# Altium footprint library clock.PcbLib: 69 footprints (part 4 of 5)
Each footprint in its own frame and in the unit in brackets; x right, y up, seen from the top. Pads: shape width x height; smd on the part's side, far side on the other; paste and mask are expansions set on the pad; w line width, h text height; cw(c..) or ccw(c..) is an arc to the next point about the centre after c.
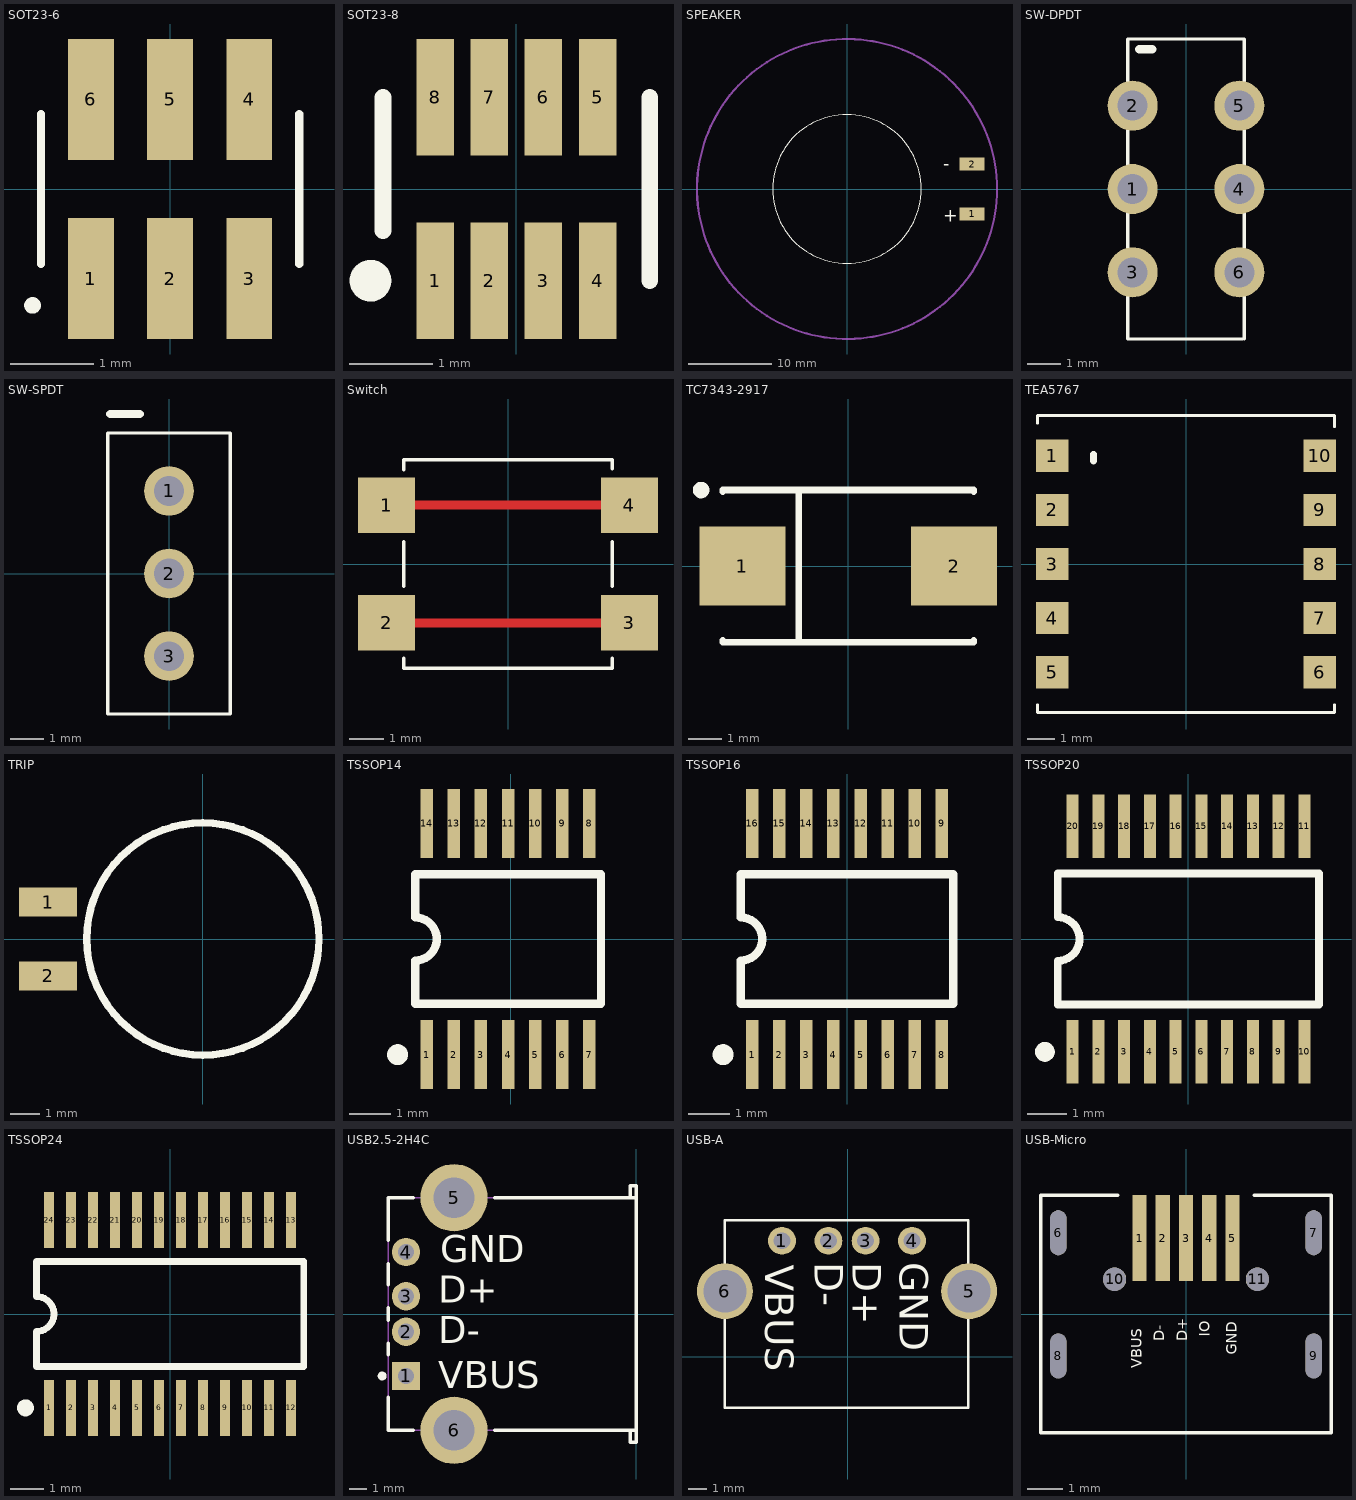
[diagram p3: the footprints below, top view; thin cyan lines are the x and y axes]

## SOT23-6 [mm] "SOT-457/SC-74; 6 Leads; Body 3 x 3 mm, inc. leads (LxW max)"
height 1.45
pads (6):
  rect 0.55x1.45 smd: 1(-0.95,-1.075) 2(0,-1.075) 3(0.95,-1.075) 4(0.95,1.075) 5(0,1.075) 6(-0.95,1.075)
Top Overlay:
  circle w0.1: c-1.651,-1.397 r0.05
  lines w0.1: -1.55,-0.9 -1.55,0.9 ; 1.55,-0.9 1.55,0.9

## SOT23-8 [mm] "SSOP; 8 Leads; Body Width 1.6 mm; Pitch 0.65 mm"
height 1.45
pads (8):
  rect 0.45x1.4 smd: 1(-0.975,-1.1) 2(-0.325,-1.1) 3(0.325,-1.1) 4(0.975,-1.1) 5(0.975,1.1) 6(0.325,1.1) 7(-0.325,1.1) 8(-0.975,1.1)
Top Overlay:
  circle w0.25: c-1.75,-1.1 r0.125
  lines w0.2: -1.6,-0.5 -1.6,1.1 ; 1.6,-1.1 1.6,1.1

## SPEAKER [mm]
pads (2):
  rect 3x1.524 smd: 1(15,-3) 2(15,3)
Top Overlay:
  circle w0.1: c0,0 r8.93
  text "+" at 11.557,-3.937 h1.52
  text "-" at 11.557,2.286 h1.52
Mechanical 13:
  circle w0.254: c0,0 r18

## SW-DPDT [mm]
pads (6):
  round 1.5 hole 0.9: 1(-1.6,0) 2(-1.6,2.5) 3(-1.6,-2.5) 4(1.6,0) 5(1.6,2.5) 6(1.6,-2.5)
Top Overlay:
  lines w0.1: 1.695,-4.5 -1.75,-4.5 -1.75,4.5 1.75,4.5 1.75,-4.5
  lines w0.254: -1.397,4.191 -1.016,4.191

## SW-SPDT [mm]
pads (3):
  round 1.5 hole 0.9: 1(0,2.5) 2(0,0) 3(0,-2.5)
Top Overlay:
  lines w0.1: -1.85,-4.25 -1.85,4.25 1.85,4.25 1.85,-4.25 -1.85,-4.25
  lines w0.254: -1.778,4.826 -0.889,4.826

## Switch [mm]
pads (4):
  rect 1.65x1.6 smd: 1(-3.5,1.7) 2(-3.5,-1.7) 3(3.5,-1.7) 4(3.5,1.7)
Top Layer:
  lines w0.254: -3.5,-1.7 3.5,-1.7 ; -3.5,1.7 3.5,1.7
Top Overlay:
  lines w0.1: -3,-2.715 -3,-3 3,-3 3,-2.715 ; -3,-0.635 -3,0.635 ; -3,2.715 -3,3 3,3 3,2.746 ; 3,-0.635 3,0.635

## TC7343-2917 [mm] "Capacitor, SM Tantalum; Body 7.3 x 4.3 mm (LxW typ)"
height 3.7
pads (2):
  rect 2.6x2.4 smd: 1(-3.2,0) 2(3.2,0)
Top Overlay:
  circle w0.25: c-4.45,2.3 r0.125
  lines w0.2: -3.8,-2.25 -3.8,-2.3 3.8,-2.3 3.8,-2.25 ; -3.8,2.25 -3.8,2.3 3.8,2.3 3.8,2.25 ; -1.5,-2.3 -1.5,2.3

## TEA5767 [mm]
pads (10):
  rect 1.2x1.2 smd: 1(-4.953,4) 2(-4.953,2) 3(-4.953,0) 4(-4.953,-2) 5(-4.953,-4) 6(4.953,-4) 7(4.953,-2) 8(4.953,0) 9(4.953,2) 10(4.953,4)
Top Overlay:
  lines w0.1: -5.5,-5.207 -5.5,-5.5 5.5,-5.5 5.5,-5.207 ; -5.5,5.207 -5.5,5.5 5.5,5.5 5.5,5.08
  lines w0.254: -3.429,3.81 -3.429,4.064
3D body: height 2, standoff 0, extent -5.461,-5.461 5.461,5.461

## TRIP [mm]
pads (2):
  rect 2x1 smd: 1(-5.334,1.27) 2(-5.334,-1.27)
Top Overlay:
  circle w0.254: c0,0 r4

## TSSOP14 [mm] "Shrink Small Outline; 16 Leads; Body Width 4.4 mm; Pitch 0.65 mm"
height 1.1
pads (14):
  rect 0.3x1.65 smd: 1(-2.021,-2.775) 2(-1.371,-2.775) 3(-0.721,-2.775) 4(-0.071,-2.775) 5(0.579,-2.775) 6(1.229,-2.775) 7(1.879,-2.775) 8(1.879,2.775) 9(1.229,2.775) 10(0.579,2.775) 11(-0.071,2.775) 12(-0.721,2.775) 13(-1.371,2.775) 14(-2.021,2.775)
Top Overlay:
  circle w0.25: c-2.721,-2.775 r0.125
  lines w0.2: -2.296,-1.55 2.159,-1.55 2.159,1.55 -2.296,1.55 -2.296,0.517 cw(c-2.296,0) -2.296,-0.517 -2.296,-1.55

## TSSOP16 [mm] "Shrink Small Outline; 16 Leads; Body Width 4.4 mm; Pitch 0.65 mm"
height 1.1
pads (16):
  rect 0.3x1.65 smd: 1(-2.275,-2.775) 2(-1.625,-2.775) 3(-0.975,-2.775) 4(-0.325,-2.775) 5(0.325,-2.775) 6(0.975,-2.775) 7(1.625,-2.775) 8(2.275,-2.775) 9(2.275,2.775) 10(1.625,2.775) 11(0.975,2.775) 12(0.325,2.775) 13(-0.325,2.775) 14(-0.975,2.775) 15(-1.625,2.775) 16(-2.275,2.775)
Top Overlay:
  circle w0.25: c-2.975,-2.775 r0.125
  lines w0.2: -2.55,-1.55 -2.55,-0.517 ccw(c-2.55,0) -2.55,0.517 -2.55,1.55 2.55,1.55 2.55,-1.55 -2.55,-1.55

## TSSOP20 [mm] "Shrink Small Outline; 20 Leads; Body Width 4.4 mm; Pitch 0.65 mm"
height 1.1
pads (20):
  rect 0.3x1.6 smd: 1(-2.925,-2.85) 2(-2.275,-2.85) 3(-1.625,-2.85) 4(-0.975,-2.85) 5(-0.325,-2.85) 6(0.325,-2.85) 7(0.975,-2.85) 8(1.625,-2.85) 9(2.275,-2.85) 10(2.925,-2.85) 11(2.925,2.85) 12(2.275,2.85) 13(1.625,2.85) 14(0.975,2.85) 15(0.325,2.85) 16(-0.325,2.85) 17(-0.975,2.85) 18(-1.625,2.85) 19(-2.275,2.85) 20(-2.925,2.85)
Top Overlay:
  circle w0.25: c-3.625,-2.85 r0.125
  lines w0.2: -3.3,-1.65 3.3,-1.65 3.3,1.65 -3.3,1.65 -3.3,0.55 cw(c-3.3,0) -3.3,-0.55 -3.3,-1.65

## TSSOP24 [mm] "Shrink Small Outline; 24 Leads; Body Width 4.4 mm; Pitch 0.65 mm"
height 1.2
pads (24):
  rect 0.3x1.65 smd: 1(-3.575,-2.775) 2(-2.925,-2.775) 3(-2.275,-2.775) 4(-1.625,-2.775) 5(-0.975,-2.775) 6(-0.325,-2.775) 7(0.325,-2.775) 8(0.975,-2.775) 9(1.625,-2.775) 10(2.275,-2.775) 11(2.925,-2.775) 12(3.575,-2.775) 13(3.575,2.775) 14(2.925,2.775) 15(2.275,2.775) 16(1.625,2.775) 17(0.975,2.775) 18(0.325,2.775) 19(-0.325,2.775) 20(-0.975,2.775) 21(-1.625,2.775) 22(-2.275,2.775) 23(-2.925,2.775) 24(-3.575,2.775)
Top Overlay:
  circle w0.25: c-4.275,-2.775 r0.125
  lines w0.2: -3.95,-1.55 -3.95,-0.517 ccw(c-3.95,0) -3.95,0.517 -3.95,1.55 3.95,1.55 3.95,-1.55 -3.95,-1.55

## USB2.5-2H4C [mm] "Connector; USB1.1, Type A, Thru-Hole; 4 Position; Right Angle"
height 7.01
pads (6):
  rect 1.6x1.6 hole 0.92: 1(-12.99,-3.5)
  round 1.6 hole 0.92: 2(-12.99,-1) 3(-12.99,1) 4(-12.99,3.5)
  round 3.8 hole 2.3: 5(-10.28,6.57) 6(-10.28,-6.57)
Top Overlay:
  circle w0.25: c-14.34,-3.5 r0.125
  lines w0.2: -14,-4.7 -14,-6.565 -12.58,-6.565 ; -14,-2.3 -14,-1.66 ; -14,-0.34 -14,0.34 ; -14,1.66 -14,2.84 ; -14,4.16 -14,6.565 -12.58,6.565 ; -7.98,-6.565 0,-6.565 ; -7.98,6.565 0,6.565 ; -0.32,-6.565 -0.32,-7.25 0,-7.25 0,-6.565 ; -0.32,6.565 -0.32,7.25 0,7.25 0,6.565 ; 0,-6.565 0,6.565
  text "GND" at -11.049,2.921 h1.52
  text "D+" at -11.176,0.635 h1.52
  text "D-" at -11.176,-1.651 h1.52
  text "VBUS" at -11.176,-4.191 h1.52
Mechanical 13:
  lines w0.1: -14,-6.565 -14,6.565 -0.32,6.565 -0.32,7.25 0,7.25 0,-7.25 -0.32,-7.25 -0.32,-6.565 -14,-6.565
3D body: height 7.01, standoff 0, extent -13.999,-7.249 -0.001,7.249

## USB-A [mm]
pads (6):
  round 1.5 hole 0.9: 1(-3.545,6.236) 2(-1.045,6.236) 3(0.955,6.236) 4(3.455,6.236)
  round 3 hole 2.3: 5(6.525,3.526) 6(-6.615,3.526)
Top Overlay:
  lines w0.127: -6.615,-2.754 6.485,-2.754 6.485,7.346 -6.615,7.346 -6.615,3.526 -6.615,-2.754
  text "VBUS" at -4.445,4.953 h1.52
  text "D-" at -1.778,5.08 h1.52
  text "D+" at 0.254,5.08 h1.52
  text "GND" at 2.794,5.08 h1.52

## USB-Micro [mm]
pads (11):
  rect 0.4x2.4 smd: 1(-1.3,2.125) 2(-0.65,2.125) 3(0,2.125) 4(0.65,2.125) 5(1.3,2.125)
  oval 0.45x1.25 hole 0.45 slot 1.25 at 90 deg: 6(-3.575,2.275) 7(3.575,2.275) 8(-3.575,-1.175) 9(3.575,-1.175)
  round 0.65 hole 0.65: 10(-2,0.975) 11(2,0.975)
Top Overlay:
  lines w0.1: -1.905,3.325 -4.064,3.325 -4.064,-3.325 4.064,-3.325 4.064,3.325 1.905,3.325
  text "VBUS" at -1.143,-1.524 h0.5
  text "GND" at 1.524,-1.143 h0.5
  text "D-" at -0.508,-0.762 h0.5
  text "D+" at 0.127,-0.762 h0.5
  text "IO" at 0.762,-0.635 h0.5